# Altium schematic symbol library Push_Button_SPST-NO_B3F-1070.SchLib: 1 symbol
Pins are listed as number, name and electrical type; pins without a type are passive.

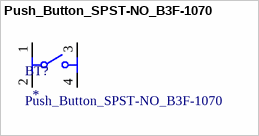
[diagram p0: symbol Push_Button_SPST-NO_B3F-1070]

## Push_Button_SPST-NO_B3F-1070
designator BT?
NO Straight SPST Plugin Tactile Switches ROHS; LCSC: *
footprint Push_Button_SPST-NO_B3F-1070
pins: 1, 2, 3, 4